# EAGLE library part 35318-1020 (library MCE_Conectores)
Mini FIT connector 10 pol Source: http://www.molex.com
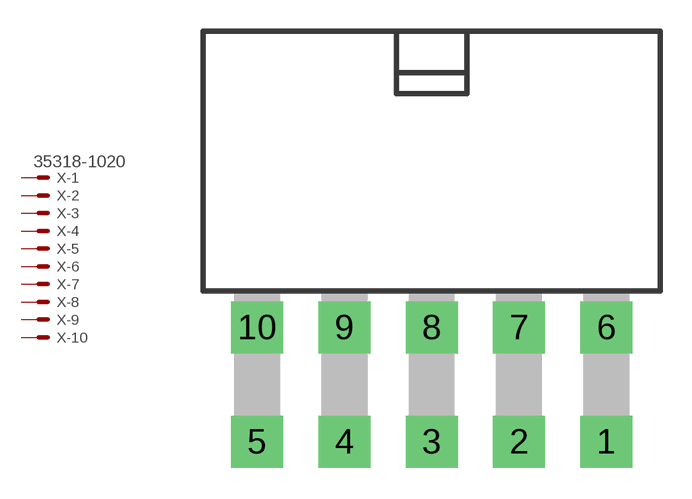
[diagram p10: symbol with the pads of 35318-1020; footprint 35318-1020]

Designator prefix X; gates -1=MV-1 -2=M-1 -3=M-1 -4=M-1 -5=M-1 -6=M-1 -7=M-1 -8=M-1 -9=M-1 -10=M-1

## 35318-1020 (OC_FARNELL: unknown; OC_NEWARK: unknown)  [35318-1020]
1  -1:S  pas
2  -2:S  pas
3  -3:S  pas
4  -4:S  pas
5  -5:S  pas
6  -6:S  pas
7  -7:S  pas
8  -8:S  pas
9  -9:S  pas
10  -10:S  pas

## Footprint 35318-1020 (pad centres in mm)
Mini FIT connector 10 pol Source: https://www.molex.com/pdm_docs/sd/353181020_sd.pdf
drill 1.4 pad 2.5 square: 1 8.4,-2.75; 2 4.2,-2.75; 3 0,-2.75; 4 -4.2,-2.75; 5 -8.4,-2.75; 6 8.4,2.75; 7 4.2,2.75; 8 0,2.75; 9 -4.2,2.75; 10 -8.4,2.75